# Altium footprint library solenoid_maker.PcbLib: 5 footprints
Each footprint in its own frame and in the unit in brackets; x right, y up, seen from the top. Pads: shape width x height; smd on the part's side, far side on the other; paste and mask are expansions set on the pad; w line width, h text height; cw(c..) or ccw(c..) is an arc to the next point about the centre after c.
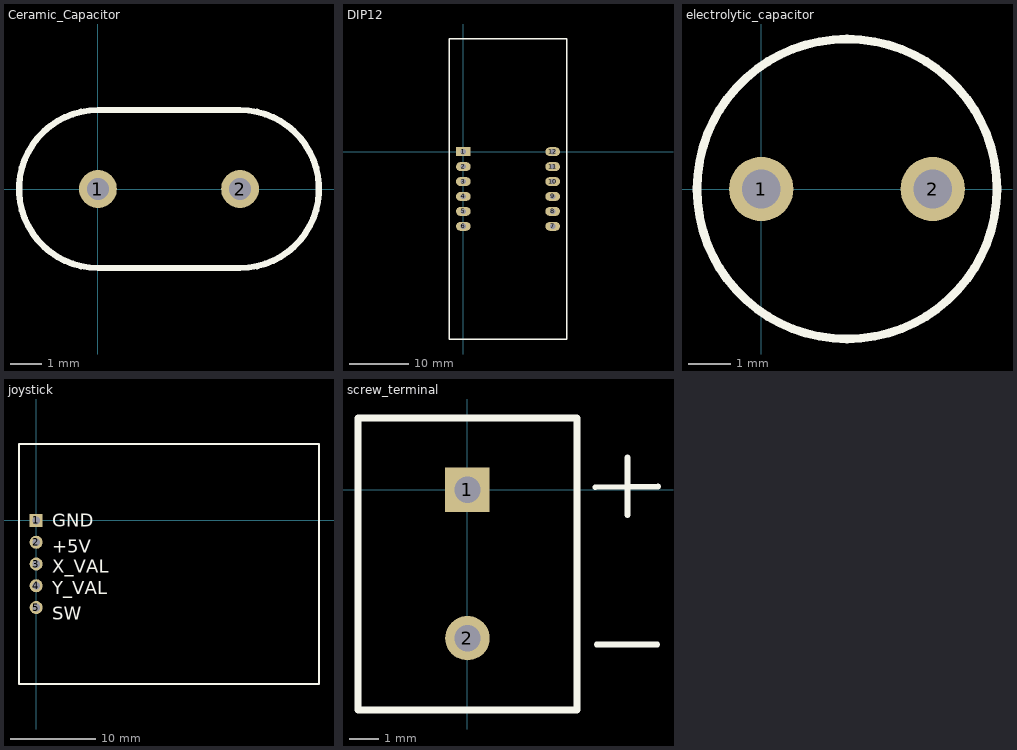
[diagram p0: the footprints below, top view; thin cyan lines are the x and y axes]

## Ceramic_Capacitor [mm]
pads (2):
  round 1.2 hole 0.7: 1(0,0) 2(4.5,0)
Top Overlay:
  lines w0.2: 0,-2.5 cw(c0,0) 0,2.5 4.5,2.5 cw(c4.5,0) 4.5,-2.5 0,-2.5

## DIP12 [mm]
pads (12):
  rect 2.5x1.5 hole 0.9: 1(0,0)
  oval 2.5x1.5 hole 0.9: 2(0,-2.54) 3(0,-5.08) 4(0,-7.62) 5(0,-10.16) 6(0,-12.7) 7(15.2,-12.7) 8(15.2,-10.16) 9(15.2,-7.62) 10(15.2,-5.08) 11(15.2,-2.54) 12(15.2,0)
Top Overlay:
  lines w0.254: -2.4,-31.85 17.6,-31.85 17.6,19.15 -2.4,19.15 -2.4,-31.85

## electrolytic_capacitor [mm]
pads (2):
  round 1.5 hole 0.9: 1(0,0) 2(4,0)
Top Overlay:
  circle w0.2: c2,0 r3.5

## joystick [mil]
pads (5):
  rect 60x60 hole 35.43: 1(0,0)
  round 60 hole 35.43: 2(0,-100) 3(0,-200) 4(0,-300) 5(0,-400)
Top Overlay:
  lines w10: -78.74,-751.18 1299.21,-751.18 1299.21,351.18 -78.74,351.18 -78.74,-751.18
  text "GND" at 73.98,-29.37 h60
  text "+5V" at 73.98,-147.48 h60
  text "X_VAL" at 73.98,-240.83 h60
  text "Y_VAL" at 73.98,-338.27 h60
  text "SW" at 73.98,-456.54 h60

## screw_terminal [mil]
pads (2):
  rect 60x60 hole 35.43: 1(0,0)
  round 60 hole 35.43: 2(0,-200)
Top Overlay:
  lines w7.87: 172.24,3.43 256.89,4.42 ; 174.21,-208.66 255.91,-208.66 ; 215.55,-33.97 215.55,43.79
  lines w10: -147.64,-296.85 147.64,-296.85 147.64,96.85 -147.64,96.85 -147.64,-296.85